# Altium footprint library LEDM3020X150N.PcbLib: 1 footprints
Each footprint in its own frame and in the unit in brackets; x right, y up, seen from the top. Pads: shape width x height; smd on the part's side, far side on the other; paste and mask are expansions set on the pad; w line width, h text height; cw(c..) or ccw(c..) is an arc to the next point about the centre after c.
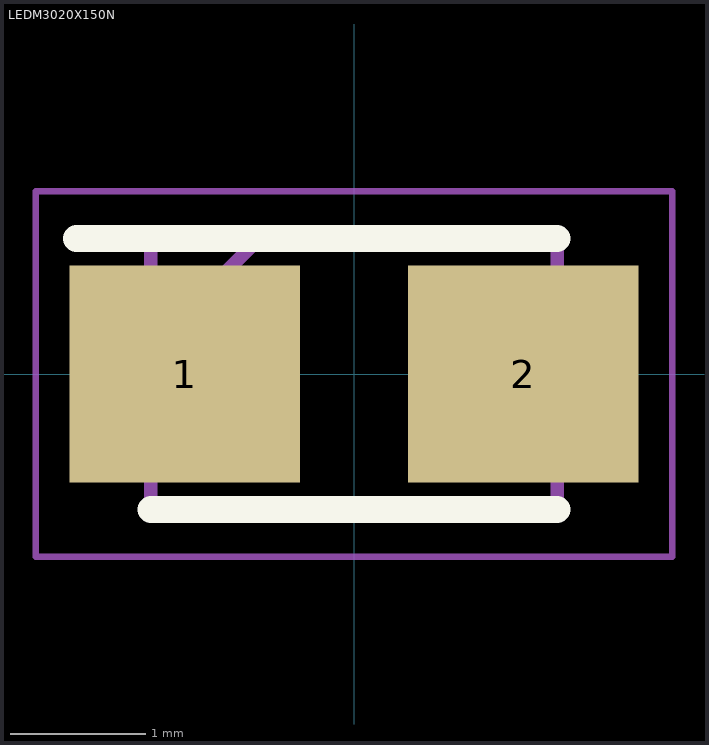
[diagram p0: the footprint, top view; thin cyan lines are the x and y axes]

## LEDM3020X150N [mm]
pads (2):
  rect 1.7x1.6 smd: 1(-1.25,0) 2(1.25,0)
Top Overlay:
  lines w0.2: -2.05,1 1.5,1 ; -1.5,-1 1.5,-1
Mechanical 15:
  lines w0.1: -1.5,0.2 -0.7,1 ; -1.5,-1 1.5,-1 1.5,1 -1.5,1 -1.5,-1
Mechanical 20:
  lines w0.05: -2.35,-1.35 2.35,-1.35 2.35,1.35 -2.35,1.35 -2.35,-1.35